# Altium schematic symbol library Schlib1.SchLib: 73 symbols
Pins are listed as number, name and electrical type; pins without a type are passive.

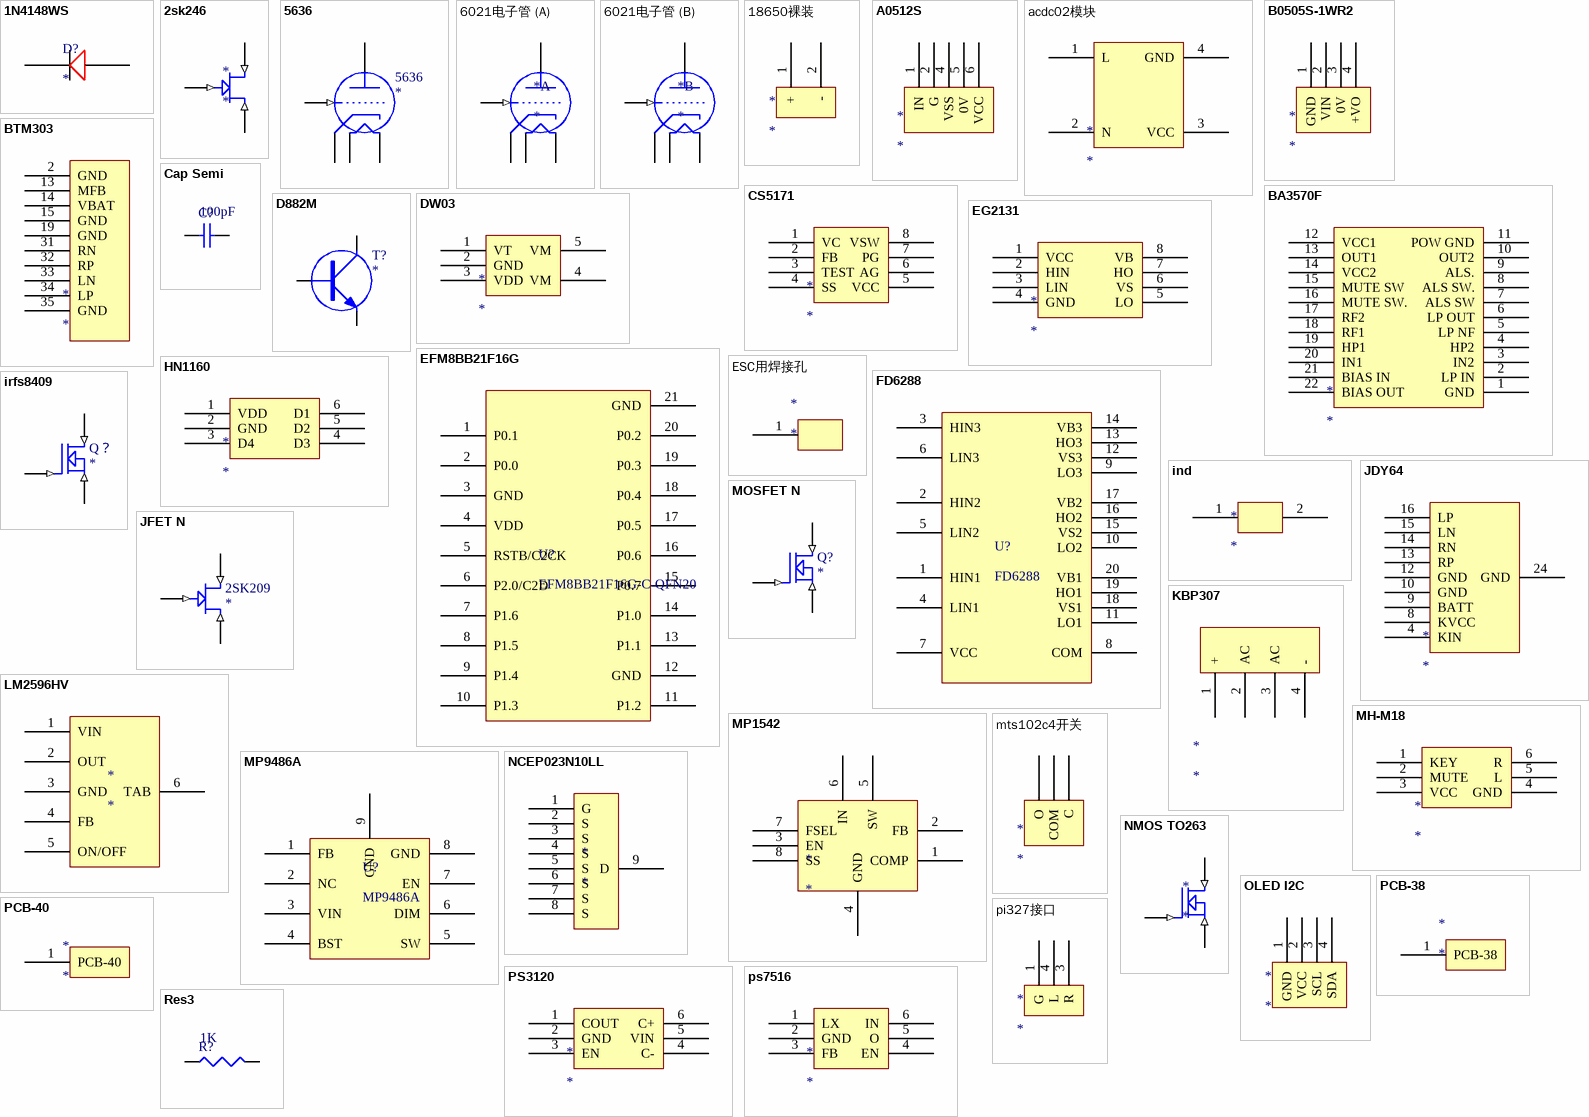
[diagram p0: symbols 1N4148WS to Res3]

## 1N4148WS
designator D?
footprint SOD323 (Chip Capacitor, Body 2.0x1.3mm, IPC High Density)
pins: 1, 2

## 2sk246
designator *
footprint 2sk246
pins: D (in), G (in), S (in)

## 5636
designator 5636
Triode
simulation model 7199Ta (SUNBCKT)
footprint 5636电子管
pins: 1 G (in), 2 K, 3 H1, 5 P, 6 H2

## 6021电子管
designator *
footprint 6021电子管
part A pins: 1 P, 2 G (in), 3 H1, 4 K, 6 H2
part B pins: 3 H1, 5 K, 6 H2, 7 G (in), 8 P

## 18650裸装
designator *
footprint 18650
pins: 1 +, 2 -

## A0512S
designator *
footprint DCDC
pins: 1 IN, 2 G, 4 VSS, 5 0V, 6 VCC

## acdc02模块
designator *
footprint ACDC02
pins: 1 L, 2 N, 3 VCC, 4 GND

## B0505S-1WR2
designator *
footprint B0505S
pins: 1 GND, 2 VIN, 3 0V, 4 +VO

## BA3570F
designator *
footprint SOP22 - duplicate
pins: 1 GND, 2 LP IN, 3 IN2, 4 HP2, 5 LP NF, 6 LP OUT, 7 ALS SW, 8 ALS SW., 9 ALS., 10 OUT2, 11 POW GND, 12 VCC1, 13 OUT1, 14 VCC2, 15 MUTE SW, 16 MUTE SW., 17 RF2, 18 RF1, 19 HP1, 20 IN1, 21 BIAS IN, 22 BIAS OUT

## BTM303
designator *
footprint BTM303
pins: 2 GND, 13 MFB, 14 VBAT, 15 GND, 19 GND, 31 RN, 32 RP, 33 LN, 34 LP, 35 GND

## Cap Semi
designator C?  value 100pF
Capacitor (Semiconductor SIM Model); Published: 8-Jun-2000; LatestRevisionDate: 29-May-2009; LatestRevisionNote: IPC-7351 Footprint Added.; PackageReference: C1206; Publisher: Altium Limited; PackageDescription: Chip Capacitor
footprint 0805 (Chip Capacitor, Body 2.0x1.3mm, IPC High Density)
pins: 1, 2

## CS5171
designator *
footprint SOP8
pins: 1 VC, 2 FB, 3 TEST, 4 SS, 5 VCC, 6 AG, 7 PG, 8 VSW

## D882M
designator T?
NPN Transistor
footprint TO252_N (D-PAK, 4-Leads, Body 6.1x6.6mm, Pitch 2.28mm, Lead Span 10mm, IPC Medium Density)
pins: 1 B, 3 E, 4 C

## DW03
designator *
footprint ADI-RJ-5_L (SOT-23, 5-Leads, Body 2.9x1.6mm, Pitch 0.95mm, IPC High Density)
pins: 1 VT, 2 GND, 3 VDD, 4 VM, 5 VM

## EFM8BB21F16G
designator U?, comment EFM8BB21F16G-C-QFN20
footprint EFM8BB21F16G
pins: 1 P0.1, 2 P0.0, 3 GND, 4 VDD, 5 RSTB/C2CK, 6 P2.0/C2D, 7 P1.6, 8 P1.5, 9 P1.4, 10 P1.3, 11 P1.2, 12 GND, 13 P1.1, 14 P1.0, 15 P0.7, 16 P0.6, 17 P0.5, 18 P0.4, 19 P0.3, 20 P0.2, 21 GND

## EG2131
designator *
footprint SOP8
pins: 1 VCC, 2 HIN, 3 LIN, 4 GND, 5 LO, 6 VS, 7 HO, 8 VB

## ESC用焊接孔
designator *
footprint ESC焊接孔
pins: 1

## FD6288
designator U?
footprint FD6288
pins: 1 HIN1, 2 HIN2, 3 HIN3, 4 LIN1, 5 LIN2, 6 LIN3, 7 VCC, 8 COM, 9 LO3, 10 LO2, 11 LO1, 12 VS3, 13 HO3, 14 VB3, 15 VS2, 16 HO2, 17 VB2, 18 VS1, 19 HO1, 20 VB1

## HN1160
designator *
footprint SOT-23-OT6_L (SOT23, 6-Leads, Body 2.9x1.6mm, Pitch 0.95mm, Lead Span 2.7mm, IPC High Density)
pins: 1 VDD, 2 GND, 3 D4, 4 D3, 5 D2, 6 D1

## ind
designator *
footprint 电感
footprint 0630 - duplicate
pins: 1 102, 2 103

## irfs8409
designator Q？
footprint irfs8409
pins: D (in), G (in), S (in)

## JDY64
designator *
footprint JDY-64 - 1
pins: 4 KIN, 8 KVCC, 9 BATT, 10 GND, 12 GND, 13 RP, 14 RN, 15 LN, 16 LP, 24 GND

## JFET N
designator 2SK209
footprint N-JFET
pins: D (in), G (in), S (in)

## KBP307
designator *
footprint KBP307
pins: 1 +, 2 AC, 3 AC, 4 -

## LM2596HV
designator *
footprint LM2596HV
pins: 1 VIN, 2 OUT, 3 GND, 4 FB, 5 ON/OFF, 6 TAB

## MH-M18
designator *
footprint MH-M18
pins: 1 KEY, 2 MUTE, 3 VCC, 4 GND, 5 L, 6 R

## MOSFET N
designator Q?
footprint ZVN4306 (SOT223, 4-Leads, Body 6.5x3.5mm, Pitch 2.3mm, Lead Span 7mm, IPC Low Density)
pins: D (in), G (in), S (in)

## MP1542
designator *
footprint MP1542
pins: 1 COMP, 2 FB, 3 EN, 4 GND, 5 SW, 6 IN, 7 FSEL, 8 SS

## MP9486A
designator U?
footprint MP9486A
pins: 1 FB, 2 NC, 3 VIN, 4 BST, 5 SW, 6 DIM, 7 EN, 8 GND, 9 GND

## mts102c4开关
designator *
footprint 钮子开关
pins: 1 O, 2 COM, 3 C

## NCEP023N10LL
designator *
footprint NCEP023N10LL
pins: 1 G, 2 S, 3 S, 4 S, 5 S, 6 S, 7 S, 8 S, 9 D

## NMOS TO263
designator *
footprint TO-263-3
pins: D (in), G (in), S (in)

## OLED I2C
designator *
footprint OLED I2C
pins: 1 GND, 2 VCC, 3 SCL, 4 SDA

## PCB-38
designator *
footprint PCB-38
pins: 1 PCB-38

## PCB-40
designator *
footprint PCB-40
pins: 1 PCB-40

## pi327接口
designator *
footprint AUDIO-TH_PJ-327-P5
pins: 1 G, 3 R, 4 L

## PS3120
designator *
footprint SOT-23-OT6_L (SOT23, 6-Leads, Body 2.9x1.6mm, Pitch 0.95mm, Lead Span 2.7mm, IPC High Density)
pins: 1 COUT, 2 GND, 3 EN, 4 C-, 5 VIN, 6 C+

## ps7516
designator *
footprint SOT-23-OT6_L (SOT23, 6-Leads, Body 2.9x1.6mm, Pitch 0.95mm, Lead Span 2.7mm, IPC High Density)
pins: 1 LX, 2 GND, 3 FB, 4 EN, 5 O, 6 IN

## Res3
designator R?  value 1K
Resistor; Published: 8-Jun-2000; LatestRevisionDate: 29-May-2009; LatestRevisionNote: IPC-7351 Footprint Added.; PackageReference: J1-0603; Publisher: Altium Limited; PackageDescription: Chip Resistor
footprint 0805 (Chip Capacitor, Body 2.0x1.3mm, IPC High Density)
footprint 功率电阻1w
footprint 功率电阻3w
footprint 0204晶圆电阻
footprint 1210
footprint R1206
pins: 1, 2

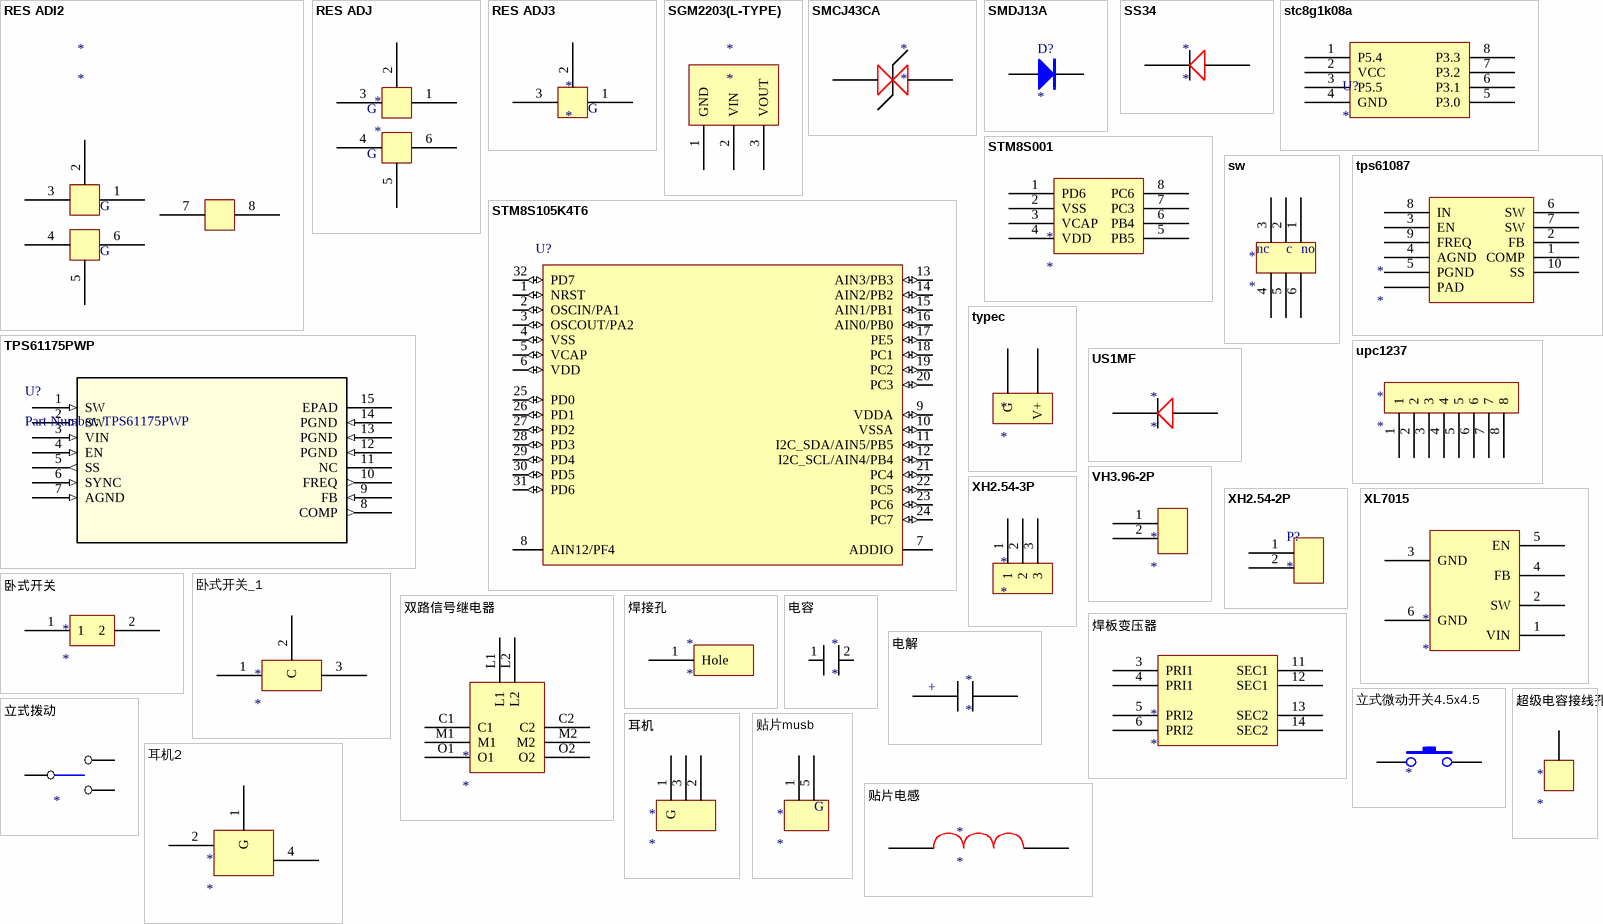
[diagram p1: symbols RES ADI2 to 超级电容接线孔]

## RES ADI2
designator *
footprint RES ADJ2 - duplicate
pins: 1 G, 2 77, 3 79, 4 81, 5 80, 6 82, 7, 8

## RES ADJ
designator *
footprint 电位器 - duplicate
pins: 1 G, 2 77, 3 79, 4 81, 5 80, 6 82

## RES ADJ3
designator *
footprint RES ADJ3
pins: 1 G, 2, 3 79

## SGM2203(L-TYPE)
designator *
footprint SGM2203
pins: 1 GND, 2 VIN, 3 VOUT

## SMCJ43CA
designator *
footprint SMCJ43CA
pins: 1, 2

## SMDJ13A
designator D?
footprint DO-214AB
pins: A, K

## SS34
designator *
footprint SS34
pins: 1, 2

## stc8g1k08a
designator U?
footprint stc8g1k08a
pins: 1 P5.4, 2 VCC, 3 P5.5, 4 GND, 5 P3.0, 6 P3.1, 7 P3.2, 8 P3.3

## STM8S001
designator *
footprint SOP8
pins: 1 PD6, 2 VSS, 3 VCAP, 4 VDD, 5 PB5, 6 PB4, 7 PC3, 8 PC6

## STM8S105K4T6
designator U?
STM8L ARM-based EnergyLite 8-bit MCU, 8 kB Flash, 1.5 kB Internal RAM, -40 to +125癈 Temperature, 32-pin LQFP, Tray; PackageVersion: 2010; PackageReference: LQFP32; PackageDescription: 32-Pin Low Profile Quad Flat Pack, 7 x 7 mm Body, 0.8 mm Pitch; ComponentLink1Description: Manufacturer URL; ComponentLink1URL: http://www.st.com/; ComponentLink2Description: STM8L101 Datasheet; ComponentLink2URL: http://www.st.com/internet/com/TECHNICAL_RESOURCES/TECHNICAL_LITERATURE/DATASHEET/CD00220591.pdf; ComponentLink3Description: STM8L Family Web Page; ComponentLink3URL: http://www.st.com/internet/mcu/subclass/1381.jsp
footprint LQFP32_N (Manufacturer "STMicroelectronics" not found)
footprint LQFP32_L (Thin QFP, 32-Leads, Body 7x7mm, Pitch 0.8mm, IPC High Density)
footprint LQFP32_M (Thin QFP, 32-Leads, Body 7x7mm, Pitch 0.8mm, IPC Low Density)
pins: 1 NRST (io), 2 OSCIN/PA1 (io), 3 OSCOUT/PA2 (io), 4 VSS (io), 5 VCAP (io), 6 VDD (io), 7 ADDIO (power), 8 AIN12/PF4 (power), 9 VDDA (io), 10 VSSA (io), 11 I2C_SDA/AIN5/PB5 (io), 12 I2C_SCL/AIN4/PB4 (io), 13 AIN3/PB3 (io), 14 AIN2/PB2 (io), 15 AIN1/PB1 (io), 16 AIN0/PB0 (io), 17 PE5 (io), 18 PC1 (io), 19 PC2 (io), 20 PC3 (io), 21 PC4 (io), 22 PC5 (io), 23 PC6 (io), 24 PC7 (io), 25 PD0 (io), 26 PD1 (io), 27 PD2 (io), 28 PD3 (io), 29 PD4 (io), 30 PD5 (io), 31 PD6 (io), 32 PD7 (io)

## sw
designator *
footprint DIP6
pins: 1, 2 62, 3 63, 4, 5 65, 6 66
text: nc; c; no

## tps61087
designator *
footprint TPS63700 (SON, 10-Leads, Body 3x3mm, Pitch 0.5mm, Thermal Pad 2.4x1.65mm, TI Recommended)
pins: 1 COMP, 2 FB, 3 EN, 4 AGND, 5 PGND, 6 SW, 7 SW, 8 IN, 9 FREQ, 10 SS, 11 PAD

## TPS61175PWP
designator U?, comment Part Number: TPS61175PWP
3-A High Voltage Boost Converter with Soft-start and Programmable Switching Frequency; Vendor: Texas Instruments; PACKAGE_DESIGNATOR: PWP; PIN_COUNT: 14; FAMILY_NAME: STEP-UP REGULATOR; INDUSTRY_STD_PKG_TYPE: HTSSOP; Manufacturer_Part_Number: TPS61175PWP; GENERIC_PART_NUMBER: TPS61175; Datasheet_URL: http://www.ti.com/lit/gpn/TPS61175; Manufacturer: Texas Instruments; Copyright: Copyright (C) 2018 Accelerated Designs. All rights reserved; RefDes: RefDes; Type: DEV; Value: Value
footprint tps61175
pins: 1 SW (in), 2 SW (in), 3 VIN (in), 4 EN (in), 5 SS (out), 6 SYNC (in), 7 AGND (in), 8 COMP (out), 9 FB (in), 10 FREQ (out), 11 NC, 12 PGND (in), 13 PGND (in), 14 PGND (in), 15 EPAD

## typec
designator *
footprint typec母座
pins: 1 G, 2 V+

## upc1237
designator *
footprint upc1237
pins: 1, 2, 3, 4, 5, 6, 7, 8

## US1MF
designator *
footprint US1MF
pins: 1, 2

## VH3.96-2P
designator *
footprint VH3.96-2P
pins: 1, 2

## XH2.54-2P
designator P?
footprint XH2.54-2P
pins: 1, 2

## XH2.54-3P
designator *
footprint XH2.54-3P
pins: 1, 2, 3

## XL7015
designator *
footprint TO-252-5
pins: 1 VIN, 2 SW, 3 GND, 4 FB, 5 EN, 6 GND

## 卧式开关
designator *
footprint 卧式开关
pins: 1, 2

## 卧式开关_1
designator *
footprint 卧式开关 - duplicate
pins: 1, 2 C, 3

## 双路信号继电器
designator *
footprint 继电器双路
pins: C1, C2, L1, L2, M1, M2, O1, O2

## 焊接孔
designator *
footprint Hole
pins: 1 Hole

## 焊板变压器
designator *
footprint PTC15
footprint PTC10
pins: 3 PRI1, 4 PRI1, 5 PRI2, 6 PRI2, 11 SEC1, 12 SEC1, 13 SEC2, 14 SEC2

## 电容
designator *
footprint 无极性脚距5
footprint 西门子千层糕
pins: 1 83, 2 84

## 电解
designator *
footprint 电解脚距5
footprint 电解D10X20 脚距5
footprint 电容脚距4.5
footprint 电解10x20卧装
footprint 电解脚距3
footprint CAP 16x25
footprint CAP 5X11
pins: 1, 2
text: +

## 立式微动开关4.5x4.5
designator ?
footprint Model Name (Model Description)
footprint 立式微动4.5x4.5
pins: 1, 2

## 立式拨动
designator ?
footprint 12f44g5立式拨动开关
pins: 1 2, 2 1, 3

## 耳机
designator *
footprint 耳机
pins: 1 G, 2 76, 3 75

## 耳机2
designator *
footprint headphone
pins: 1 G, 2 104, 4 105

## 贴片musb
designator *
footprint MICRO-USB
pins: 1 71, 5 72
text: G

## 贴片电感
designator *
footprint CDRH129
footprint 1040电感
footprint IND-SMD_L7.0-W6.6_FXL0630
pins: 1, 2

## 超级电容接线孔
designator *
footprint CON
pins: 1 73